# EAGLE library part TPS62730 (library TI-TPS6273X)
TPS62730: Step Down Converter with Bypass Mode for Ultra Low Power Wireless Applications The TPS62730 is a high frequency synchronous step down DC-DC converter optimized for ultra low power wireless applications. The device is optimized to supply TI&3146;s Low Power Wireless sub 1GHz and 2.4GHz RF transceivers and System-On-Chip-solutions. The TPS62730 reduces the current consumption drawn from the battery during TX and RX mode by a high efficient step down voltage conversion. It provides up to 100mA output current and allows the use of tiny and low cost chip inductors and capacitors. With an input voltage range of 1.9V to 3.9V the device supports Li-primary battery chemistries such as Li-SOCl2, Li-SO2, Li-MnO2 and also two cell alkaline batteries. The TPS62730 features an Ultra Low Power bypass mode with typical 30nA current consumption to support sleep and low power modes of TI’s CC2540 Low Energy and CC430 System-On-Chip solutions. In this bypass mode, the output capacitor of the DC/DC converter is connected via an integrated typ. 2.1Ω Bypass switch to the battery. In DC/DC operation mode the device provides a fixed output voltage to the system. With a switch frequency up to 3MHz, the TPS62730 features low output ripple voltage and low noise even with a small 2.2µF output capacitor. The automatic transition into bypass mode during DC/DC operation prevents an increase of output ripple voltage and noise once the DC/DC converter operates close to 100% duty cycle. The device automatically enters bypass mode once the battery voltage falls below the transition threshold VIT BYP. The TPS62730 is available in a 1 × 1.5mm2 6 pin QFN package.
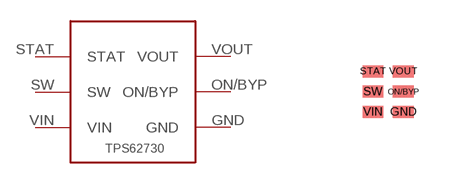
[diagram p0: symbol with the pads of TPS62730; footprint TPS62730]

Designator prefix -

## TPS62730  [TPS62730]
GND  GND
ON/BYP  ON/BYP
STAT  STAT
SW  SW
VIN  VIN
VOUT  VOUT

## Footprint TPS62730 (pad centres in mm)
smd 0.52 x 0.3: GND 0.584,-0.838; ON/BYP 0.584,-0.33; STAT -0.178,0.178; SW -0.178,-0.33; VIN -0.178,-0.838; VOUT 0.584,0.178